# EAGLE library part SODAQONE (library SODAQONE)
Designed by Prem and Pranav
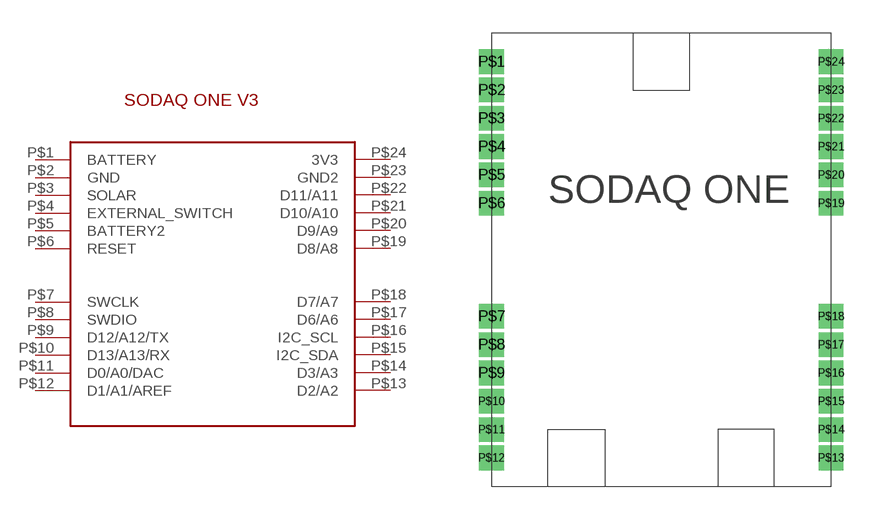
[diagram p0: symbol with the pads of SODAQONE; footprint SODAQONE]

Designator prefix -

## SODAQONE  [SODAQONE]
P$1  BATTERY
P$2  GND
P$3  SOLAR
P$4  EXTERNAL_SWITCH
P$5  BATTERY2
P$6  RESET
P$7  SWCLK
P$8  SWDIO
P$9  D12/A12/TX
P$10  D13/A13/RX
P$11  D0/A0/DAC
P$12  D1/A1/AREF
P$13  D2/A2
P$14  D3/A3
P$15  I2C_SDA
P$16  I2C_SCL
P$17  D6/A6
P$18  D7/A7
P$19  D8/A8
P$20  D9/A9
P$21  D10/A10
P$22  D11/A11
P$23  GND2
P$24  3V3

## Footprint SODAQONE (pad centres in mm)
Designed by Prem and Pranav
drill 0.6 square: P$1 -7.62,8.89; P$2 -7.62,7.62; P$3 -7.62,6.35; P$4 -7.62,5.08; P$5 -7.62,3.81; P$6 -7.62,2.54; P$7 -7.62,-2.54; P$8 -7.62,-3.81; P$9 -7.62,-5.08; P$10 -7.62,-6.35; P$11 -7.62,-7.62; P$12 -7.62,-8.89; P$13 7.62,-8.89; P$14 7.62,-7.62; P$15 7.62,-6.35; P$16 7.62,-5.08; P$17 7.62,-3.81; P$18 7.62,-2.54; P$19 7.62,2.54; P$20 7.62,3.81; P$21 7.62,5.08; P$22 7.62,6.35; P$23 7.62,7.62; P$24 7.62,8.89